# EAGLE library part SJ-3502-SMT-TR (library SJ-3502-SMT-TR)
Phone Connectors Audio Jacks Source: Datasheet <https://www.cuidevices.com/product/resource/sj-3502-smt-tr.pdf>
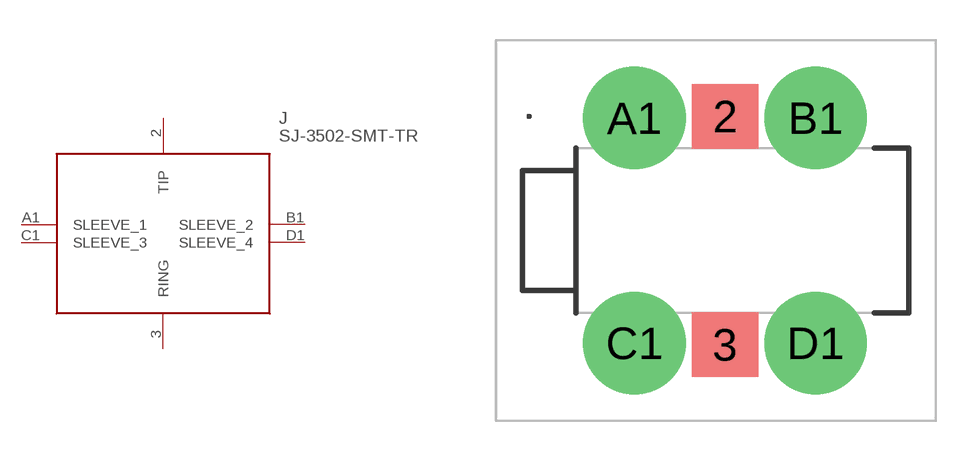
[diagram p0: symbol with the pads of SJ3502SMTTR; footprint SJ3502SMTTR]

Designator prefix J

## SJ-3502-SMT-TR (Arrow_Part_Number: SJ-3502-SMT-TR; Arrow_Price-Stock: https://www.arrow.com/en/products/sj-3502-smt-tr/cui-devices; Description: Phone Connectors Audio Jacks; Height: 4.6mm; Manufacturer_Name: CUI Devices; Manufacturer_Part_Number: SJ-3502-SMT-TR; Mouser_Part_Number: 490-SJ-3502-SMT-TR; Mouser_Price-Stock: https://www.mouser.co.uk/ProductDetail/CUI-Devices/SJ-3502-SMT-TR?qs=WyjlAZoYn53BnW6I7ND97Q%3D%3D)  [SJ3502SMTTR]
2  TIP
3  RING
A1  SLEEVE_1
B1  SLEEVE_2
C1  SLEEVE_3
D1  SLEEVE_4

## Footprint SJ3502SMTTR (pad centres in mm)
SJ-3502-SMT-TR-3
smd 2.5 x 2.43: 2 3.4,0.06; 3 3.4,-8.51
drill 2.57 pad 3.855: A1 0,0; B1 6.8,0; C1 0,-8.45; D1 6.8,-8.45